# Altium schematic symbol library LM317.SchLib: 1 symbol
Pins are listed as number, name and electrical type; pins without a type are passive.

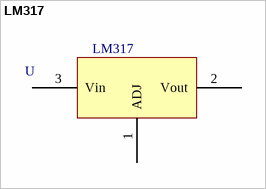
[diagram p0: symbol LM317]

## LM317
designator U  value LM317  (hidden comment: *)
Manufacturer Code: LM317MDTG; Manufacturer: ON Semiconductor; Voltage: ADJ.; Current: 500mA; Unit Price: 0,38 €; Farnell Code: 1126834
footprint DPAK
pins: 1 ADJ, 2 Vout, 3 Vin